# EAGLE library part AT25SF041 (library lichtenstein_onion)
AT25SF041 – 4-Mbit, 2.5V Minimum SPI Serial Flash Memory with Dual-I/O and Quad-I/O Support Datasheet <https://www.mouser.com/datasheet/2/590/DS-AT25SF041_044-1385758.pdf>
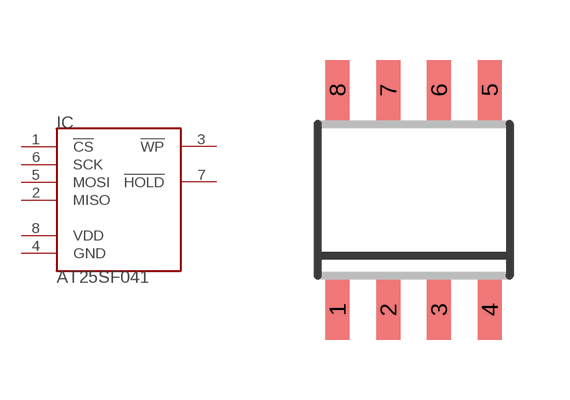
[diagram p20: symbol with the pads of SOIC8; footprint SOIC8]

Designator prefix IC

## AT25SF041 (MOUSER: 988-AT25SF041-SSHD-T)  [SOIC8]
1  !CS
2  MISO
3  !WP
4  GND  pwr
5  MOSI
6  SCK
7  !HOLD
8  VDD  pwr

## Footprint SOIC8 (pad centres in mm)
SOIC-8 CASE 751-07 Source: http://www.onsemi.com/pub/Collateral/MC34164-D.PDF D (R-PDSO-G8)PLATIC SMALL-OUTLINE PACKAGE Source: http://focus.ti.com/lit/ds/symlink/tlc27l2.pdf
smd 0.6 x 1.5: 1 -1.905,-2.75; 2 -0.635,-2.75; 3 0.635,-2.75; 4 1.905,-2.75; 5 1.905,2.75; 6 0.635,2.75; 7 -0.635,2.75; 8 -1.905,2.75